# EAGLE library part UDN2559B-T (library Allegro_By_element14_Batch_1)
Protected Quad Power Driver
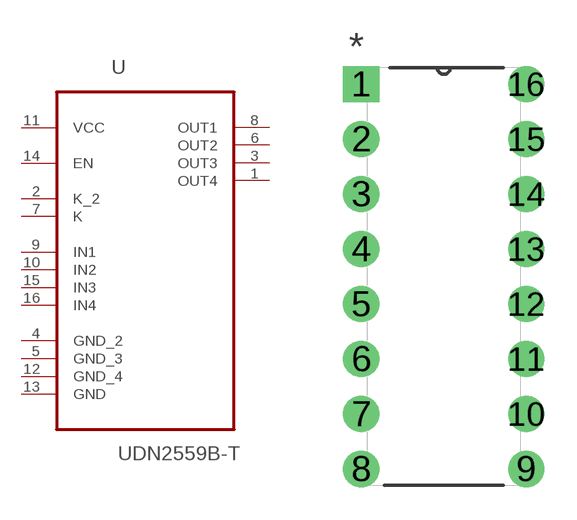
[diagram p35: symbol with the pads of DIP254P762X533-16; footprint DIP254P762X533-16]

Designator prefix U

## UDN2559B-T (MPN: UDN2559B-T; OC_FARNELL: 1521727; OC_NEWARK: 87K5085; PACKAGE: PDIP-16; SUPPLIER: Allegro)  [DIP254P762X533-16]
1  OUT4  out
2  K_2  pas
3  OUT3  out
4  GND_2  pas
5  GND_3  pas
6  OUT2  out
7  K  pas
8  OUT1  out
9  IN1  in
10  IN2  in
11  VCC  pwr
12  GND_4  pas
13  GND  pas
14  EN  in
15  IN3  in
16  IN4  in

## Footprint DIP254P762X533-16 (pad centres in mm)
drill 1.118 square: 1 -7.62,17.78
drill 1.118: 2 -7.62,15.24; 3 -7.62,12.7; 4 -7.62,10.16; 5 -7.62,7.62; 6 -7.62,5.08; 7 -7.62,2.54; 8 -7.62,0; 9 0,0; 10 0,2.54; 11 0,5.08; 12 0,7.62; 13 0,10.16; 14 0,12.7; 15 0,15.24; 16 0,17.78